# Altium schematic symbol library GENERIC_IGBT.Schlib: 1 symbol
Pins are listed as number, name and electrical type; pins without a type are passive.

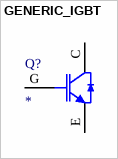
[diagram p0: symbol GENERIC_IGBT]

## GENERIC_IGBT
designator Q?
pins: C, E, G